# EAGLE library part NVT4858HKZ (library NVT4858HKZ)
Translation - Voltage Levels SD 3.0-SDR104 compliant integrated auto-direction control memory card with EMI filter and ESD protection without LDO Source: Datasheet <https://www.nxp.com/part/NVT4858HK#/>
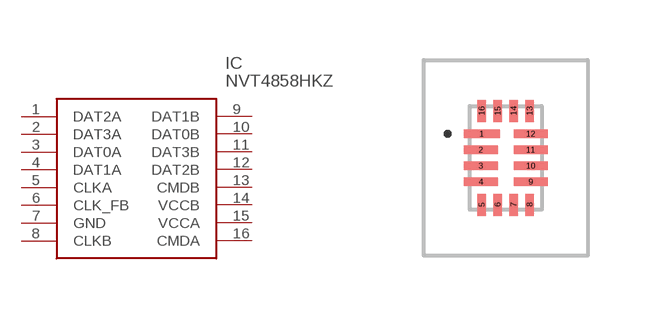
[diagram p0: symbol with the pads of NVT4858HKZ; footprint NVT4858HKZ]

Designator prefix IC

## NVT4858HKZ (Arrow_Part_Number: NVT4858HKZ; Arrow_Price-Stock: https://www.arrow.com/en/products/nvt4858hkz/nxp-semiconductors?region=nac; Description: Translation - Voltage Levels SD 3.0-SDR104 compliant integrated auto-direction control memory card with EMI filter and ESD protection without LDO; Height: 0.5mm; Manufacturer_Name: NXP; Manufacturer_Part_Number: NVT4858HKZ; Mouser_Part_Number: 771-NVT4858HKZ; Mouser_Price-Stock: https://www.mouser.co.uk/ProductDetail/NXP-Semiconductors/NVT4858HKZ?qs=TuK3vfAjtkUQFuqXj%252BGfyA%3D%3D)  [NVT4858HKZ]
1  DAT2A
2  DAT3A
3  DAT0A
4  DAT1A
5  CLKA
6  CLK_FB
7  GND
8  CLKB
9  DAT1B
10  DAT0B
11  DAT3B
12  DAT2B
13  CMDB
14  VCCB
15  VCCA
16  CMDA

## Footprint NVT4858HKZ (pad centres in mm)
NVT4858HKZ-2
smd 0.9 x 0.22: 1 -0.6,0.6
smd 0.85 x 0.22: 2 -0.625,0.2; 3 -0.625,-0.2; 4 -0.625,-0.6; 9 0.625,-0.6; 10 0.625,-0.2; 11 0.625,0.2; 12 0.625,0.6
smd 0.22 x 0.55: 5 -0.6,-1.175; 6 -0.2,-1.175; 7 0.2,-1.175; 8 0.6,-1.175; 13 0.6,1.175; 14 0.2,1.175; 15 -0.2,1.175; 16 -0.6,1.175